# Altium schematic symbol library Audio Jack_6pin.SchLib: 1 symbol
Pins are listed as number, name and electrical type; pins without a type are passive.

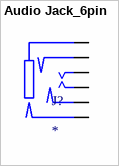
[diagram p0: symbol Audio Jack_6pin]

## Audio Jack_6pin
designator J?
pins: 1, 2, 3, 4, 5, 6